# EAGLE library part LAUNCHPAD_BOOSTER_PACK (library Boards)
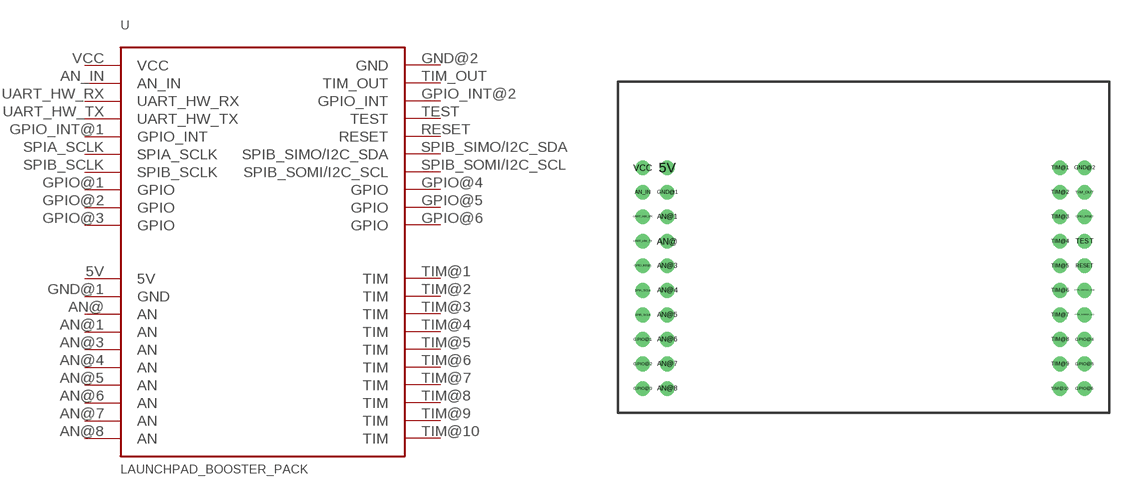
[diagram p2: symbol with the pads of LAUNCHPAD_BOOSTER_PACK; footprint LAUNCHPAD_BOOSTER_PACK]

Designator prefix -

## LAUNCHPAD_BOOSTER_PACK  [LAUNCHPAD_BOOSTER_PACK]
5V  5V  pwr
AN@  AN
AN@1  AN
AN@3  AN
AN@4  AN
AN@5  AN
AN@6  AN
AN@7  AN
AN@8  AN
AN_IN  AN_IN
GND@1  GND  pwr
GND@2  GND  pwr
GPIO@1  GPIO
GPIO@2  GPIO
GPIO@3  GPIO
GPIO@4  GPIO
GPIO@5  GPIO
GPIO@6  GPIO
GPIO_INT@1  GPIO_INT
GPIO_INT@2  GPIO_INT
RESET  RESET
SPIA_SCLK  SPIA_SCLK
SPIB_SCLK  SPIB_SCLK
SPIB_SIMO/I2C_SDA  SPIB_SIMO/I2C_SDA
SPIB_SOMI/I2C_SCL  SPIB_SOMI/I2C_SCL
TEST  TEST
TIM@1  TIM
TIM@2  TIM
TIM@3  TIM
TIM@4  TIM
TIM@5  TIM
TIM@6  TIM
TIM@7  TIM
TIM@8  TIM
TIM@9  TIM
TIM@10  TIM
TIM_OUT  TIM_OUT
UART_HW_RX  UART_HW_RX
UART_HW_TX  UART_HW_TX
VCC  VCC  pwr

## Footprint LAUNCHPAD_BOOSTER_PACK (pad centres in mm)
drill 1.016: 5V -20.32,8.89; AN@ -20.32,1.27; AN@1 -20.32,3.81; AN@3 -20.32,-1.27; AN@4 -20.32,-3.81; AN@5 -20.32,-6.35; AN@6 -20.32,-8.89; AN@7 -20.32,-11.43; AN@8 -20.32,-13.97; AN_IN -22.86,6.35; GND@1 -20.32,6.35; GND@2 22.86,8.89; GPIO@1 -22.86,-8.89; GPIO@2 -22.86,-11.43; GPIO@3 -22.86,-13.97; GPIO@4 22.86,-8.89; GPIO@5 22.86,-11.43; GPIO@6 22.86,-13.97; GPIO_INT@1 -22.86,-1.27; GPIO_INT@2 22.86,3.81; RESET 22.86,-1.27; SPIA_SCLK -22.86,-3.81; SPIB_SCLK -22.86,-6.35; SPIB_SIMO/I2C_SDA 22.86,-3.81; SPIB_SOMI/I2C_SCL 22.86,-6.35; TEST 22.86,1.27; TIM@1 20.32,8.89; TIM@2 20.32,6.35; TIM@3 20.32,3.81; TIM@4 20.32,1.27; TIM@5 20.32,-1.27; TIM@6 20.32,-3.81; TIM@7 20.32,-6.35; TIM@8 20.32,-8.89; TIM@9 20.32,-11.43; TIM@10 20.32,-13.97; TIM_OUT 22.86,6.35; UART_HW_RX -22.86,3.81; UART_HW_TX -22.86,1.27; VCC -22.86,8.89